# EAGLE library part INA240A1PW (library INA240A1PW)
Current Sense Amplifiers Voltage Output, High or Low Side Measurement, Bi-Directional Zer?-Drift Series 8-TSSOP -40 to 125 Source: Datasheet <http://www.ti.com/general/docs/lit/getliterature.tsp?genericPartNumber=ina240&fileType=pdf>
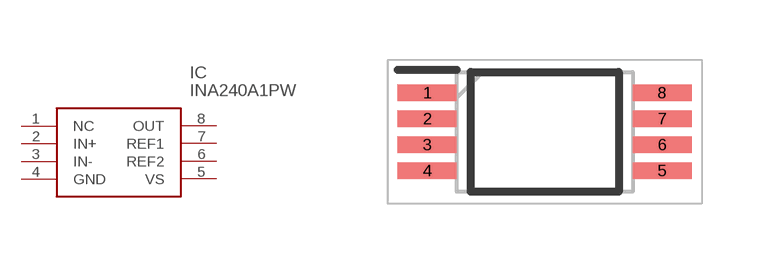
[diagram p0: symbol with the pads of SOP65P640X120-8N; footprint SOP65P640X120-8N]

Designator prefix IC

## INA240A1PW (DESCRIPTION: Current Sense Amplifiers Voltage Output, High or Low Side Measurement, Bi-Directional Zer?-Drift Series 8-TSSOP -40 to 125; HEIGHT: 1.2mm; JLCPCB: C93965; MANUFACTURER_NAME: Texas Instruments; MANUFACTURER_PART_NUMBER: INA240A1PW; MOUSER_PART_NUMBER: 595-INA240A1PW; MOUSER_PRICE-STOCK: https://www.mouser.co.uk/ProductDetail/Texas-Instruments/INA240A1PW?qs=aVyJF2WnouQ4CUqAxLDbhw%3D%3D)  [SOP65P640X120-8N]
1  NC  nc
2  IN+
3  IN-
4  GND
5  VS
6  REF2
7  REF1
8  OUT

## Footprint SOP65P640X120-8N (pad centres in mm)
PW (R-PDSO-G8)
smd 1.475 x 0.42: 1 -2.938,0.975; 2 -2.938,0.325; 3 -2.938,-0.325; 4 -2.938,-0.975; 5 2.938,-0.975; 6 2.938,-0.325; 7 2.938,0.325; 8 2.938,0.975